# Altium footprint library FFCConnectors.PcbLib: 6 footprints
Each footprint in its own frame and in the unit in brackets; x right, y up, seen from the top. Pads: shape width x height; smd on the part's side, far side on the other; paste and mask are expansions set on the pad; w line width, h text height; cw(c..) or ccw(c..) is an arc to the next point about the centre after c.
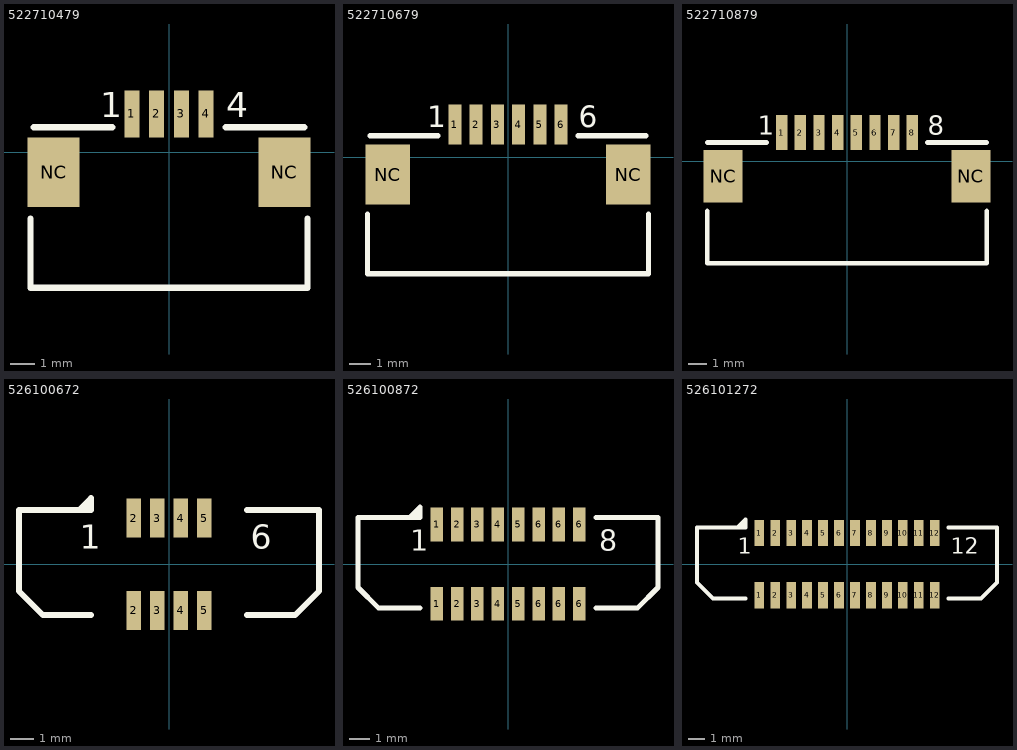
[diagram p0: the footprints below, top view; thin cyan lines are the x and y axes]

## 522710479 [mm] "Easy-On FFC/FPC Connector, 1.00mm Pitch, Slider Series, Right-Angle, Bottom Contact, 3.00mm Height, 6 Circuits, Tin-Bismuth Plating"
pads (6):
  rect 0.61x1.9 smd: 1(-1.5,1.55) 2(-0.5,1.55) 3(0.5,1.55) 4(1.5,1.55)
  rect 2.1x2.8 smd: NC(-4.65,-0.8) NC(4.65,-0.8)
Top Overlay:
  lines w0.254: -5.588,-2.667 -5.588,-5.461 5.588,-5.461 5.588,-2.667 ; -5.461,1.016 -2.286,1.016 ; 2.286,1.016 5.461,1.016
  text "4" at 2.311,1.422 h1.02
  text "1" at -2.769,1.422 h1.02
3D body "522710479.stp": height 3.05, standoff 0.05, extent -5.5,-5.4 5.5,2

## 522710679 [mm] "Easy-On FFC/FPC Connector, 1.00mm Pitch, Slider Series, Right-Angle, Bottom Contact, 3.00mm Height, 6 Circuits, Tin-Bismuth Plating"
pads (8):
  rect 0.61x1.9 smd: 1(-2.5,1.55) 2(-1.5,1.55) 3(-0.5,1.55) 4(0.5,1.55) 5(1.5,1.55) 6(2.5,1.55)
  rect 2.1x2.8 smd: NC(-5.65,-0.8) NC(5.65,-0.8)
Top Overlay:
  lines w0.254: -6.604,-2.667 -6.604,-5.461 6.604,-5.461 6.604,-2.667 ; -6.477,1.016 -3.302,1.016 ; 3.302,1.016 6.477,1.016
  text "1" at -3.785,1.422 h1.02
  text "6" at 3.327,1.422 h1.02
3D body "522710679.stp": height 3.05, standoff 0.05, extent -6.5,-5.4 6.5,2

## 522710879 [mm] "Easy-On FFC/FPC Connector, 1.00mm Pitch, Slider Series, Right-Angle, Bottom Contact, 3.00mm Height, 6 Circuits, Tin-Bismuth Plating"
pads (10):
  rect 0.61x1.9 smd: 1(-3.5,1.55) 2(-2.5,1.55) 3(-1.5,1.55) 4(-0.5,1.55) 5(0.5,1.55) 6(1.5,1.55) 7(2.5,1.55) 8(3.5,1.55)
  rect 2.1x2.8 smd: NC(-6.65,-0.8) NC(6.65,-0.8)
Top Overlay:
  lines w0.254: -7.493,-2.667 -7.493,-5.461 7.493,-5.461 7.493,-2.667 ; -7.493,1.016 -4.318,1.016 ; 4.318,1.016 7.493,1.016
  text "1" at -4.801,1.422 h1.02
  text "8" at 4.343,1.422 h1.02
3D body "522710879.stp": height 3.05, standoff 0.05, extent -7.5,-5.4 7.5,2

## 526100672 [mm] "Easy-On FFC/FPC Connector, 1.00mm Pitch, Slider Series, Vertical, 5.75mm Height, 6 Circuits, Gold Plating"
pads (8):
  rect 0.61x1.651 smd: 2(-1.5,-1.95) 2(-1.5,1.95) 3(-0.5,-1.95) 3(-0.5,1.95) 4(0.5,-1.95) 4(0.5,1.95) 5(1.5,-1.95) 5(1.5,1.95)
Top Overlay:
  lines w0.254: -3.302,-2.159 -5.334,-2.159 -6.35,-1.143 -6.35,2.286 -3.302,2.286 -3.302,2.794 -3.81,2.286 -3.556,2.286 -3.302,2.54 ; 3.302,-2.159 5.334,-2.159 6.35,-1.143 6.35,2.286 3.302,2.286
  text "6" at 3.454,0.66 h1.02
  text "1" at -3.785,0.66 h1.02
3D body "526100672.stp": height 5.7, standoff -0.05, extent -6.3,-2.25 6.3,2.25

## 526100872 [mm] "Easy-On FFC/FPC Connector, 1.00mm Pitch, Slider Series, Vertical, 5.75mm Height, 6 Circuits, Gold Plating"
pads (16):
  rect 0.61x1.651 smd: 1(-3.5,-1.95) 1(-3.5,1.95) 2(-2.5,-1.95) 2(-2.5,1.95) 3(-1.5,-1.95) 3(-1.5,1.95) 4(-0.5,-1.95) 4(-0.5,1.95) 5(0.5,-1.95) 5(0.5,1.95) 6(1.5,-1.95) 6(1.5,1.95) 6(2.5,-1.95) 6(2.5,1.95) 6(3.5,-1.95) 6(3.5,1.95)
Top Overlay:
  lines w0.254: -4.318,-2.159 -6.35,-2.159 -7.366,-1.143 -7.366,2.286 -4.318,2.286 -4.318,2.794 -4.826,2.286 -4.572,2.286 -4.318,2.54 ; 4.318,-2.159 6.35,-2.159 7.366,-1.143 7.366,2.286 4.318,2.286
  text "1" at -4.801,0.66 h1.02
  text "8" at 4.47,0.66 h1.02
3D body "526100872.stp": height 5.7, standoff -0.05, extent -7.3,-2.25 7.3,2.25

## 526101272 [mm] "Easy-On FFC/FPC Connector, 1.00mm Pitch, Slider Series, Vertical, 5.75mm Height, 12 Circuits, Gold Plating"
pads (24):
  rect 0.61x1.651 smd: 1(-5.5,-1.95) 1(-5.5,1.95) 2(-4.5,-1.95) 2(-4.5,1.95) 3(-3.5,-1.95) 3(-3.5,1.95) 4(-2.5,-1.95) 4(-2.5,1.95) 5(-1.5,-1.95) 5(-1.5,1.95) 6(-0.5,-1.95) 6(-0.5,1.95) 7(0.5,-1.95) 7(0.5,1.95) 8(1.5,-1.95) 8(1.5,1.95) 9(2.5,-1.95) 9(2.5,1.95) 10(3.5,-1.95) 10(3.5,1.95) 11(4.5,-1.95) 11(4.5,1.95) 12(5.5,-1.95) 12(5.5,1.95)
Top Overlay:
  lines w0.254: -6.35,-2.159 -8.382,-2.159 -9.398,-1.143 -9.398,2.286 -6.35,2.286 -6.35,2.794 -6.858,2.286 -6.604,2.286 -6.35,2.54 ; 6.35,-2.159 8.382,-2.159 9.398,-1.143 9.398,2.286 6.35,2.286
  text "12" at 6.502,0.66 h1.02
  text "1" at -6.833,0.66 h1.02
3D body "526101272.stp": height 5.7, standoff -0.05, extent -9.3,-2.25 9.3,2.25